# Altium schematic symbol library LMV331.Schlib: 1 symbol
Pins are listed as number, name and electrical type; pins without a type are passive.

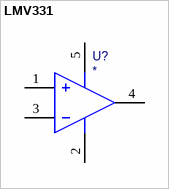
[diagram p0: symbol LMV331]

## LMV331
designator U?
pins: 1 IN+, 2 GND, 3 IN-, 4 OUT, 5 VCC